# Altium footprint library simblee.PcbLib: 1 footprints
Each footprint in its own frame and in the unit in brackets; x right, y up, seen from the top. Pads: shape width x height; smd on the part's side, far side on the other; paste and mask are expansions set on the pad; w line width, h text height; cw(c..) or ccw(c..) is an arc to the next point about the centre after c.
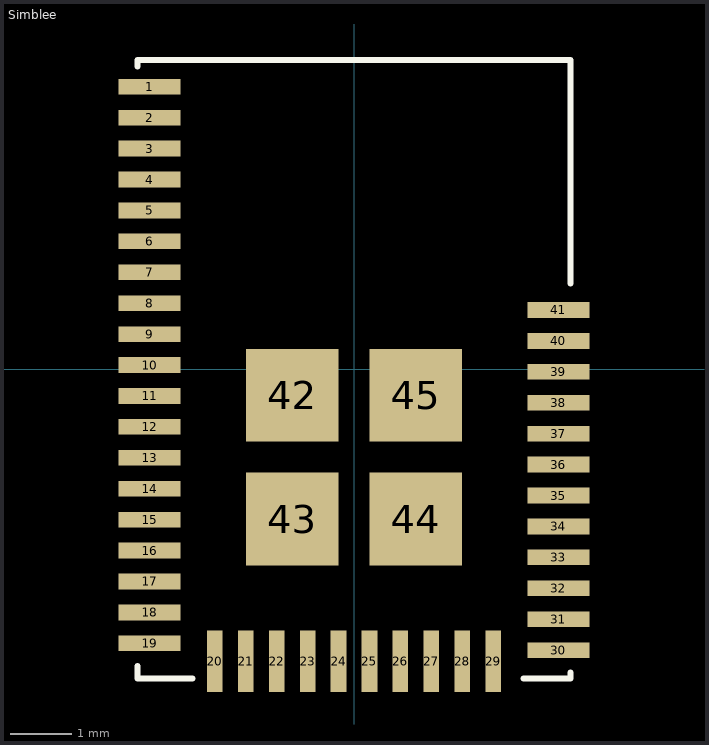
[diagram p0: the footprint, top view; thin cyan lines are the x and y axes]

## Simblee [mm] "Siblee BT/MCU"
height 2.2
pads (45):
  rect 1x0.254 smd: 1(-3.305,4.57) 2(-3.305,4.07) 3(-3.305,3.57) 4(-3.305,3.07) 5(-3.305,2.57) 6(-3.305,2.07) 7(-3.305,1.57) 8(-3.305,1.07) 9(-3.305,0.57) 10(-3.305,0.07) 11(-3.305,-0.43) 12(-3.305,-0.93) 13(-3.305,-1.43) 14(-3.305,-1.93) 15(-3.305,-2.43) 16(-3.305,-2.93) 17(-3.305,-3.43) 18(-3.305,-3.93) 19(-3.305,-4.43) 30(3.305,-4.54) 31(3.305,-4.04) 32(3.305,-3.54) 33(3.305,-3.04) 34(3.305,-2.54) 35(3.305,-2.04) 36(3.305,-1.54) 37(3.305,-1.04) 38(3.305,-0.54) 39(3.305,-0.04) 40(3.305,0.46) 41(3.305,0.96)
  rect 0.254x1 smd: 20(-2.25,-4.72) 21(-1.75,-4.72) 22(-1.25,-4.72) 23(-0.75,-4.72) 24(-0.25,-4.72) 25(0.25,-4.72) 26(0.75,-4.72) 27(1.25,-4.72) 28(1.75,-4.72) 29(2.25,-4.72)
  rect 1.5x1.5 smd: 42(-1,-0.42) 43(-1,-2.42) 44(1,-2.42) 45(1,-0.42)
Top Overlay:
  lines w0.1: -3.5,-4.801 -3.5,-5 -2.616,-5 ; -3.5,4.9 -3.5,5 3.5,5 3.5,1.392 ; 2.743,-5 3.5,-5 3.5,-4.9
3D body: height 2.2, standoff 0, extent -3.5,-5 3.5,5